# Altium integrated library TI Data Converters Analog to Digital Converter.IntLib: 2197 symbols (part 80 of 168)
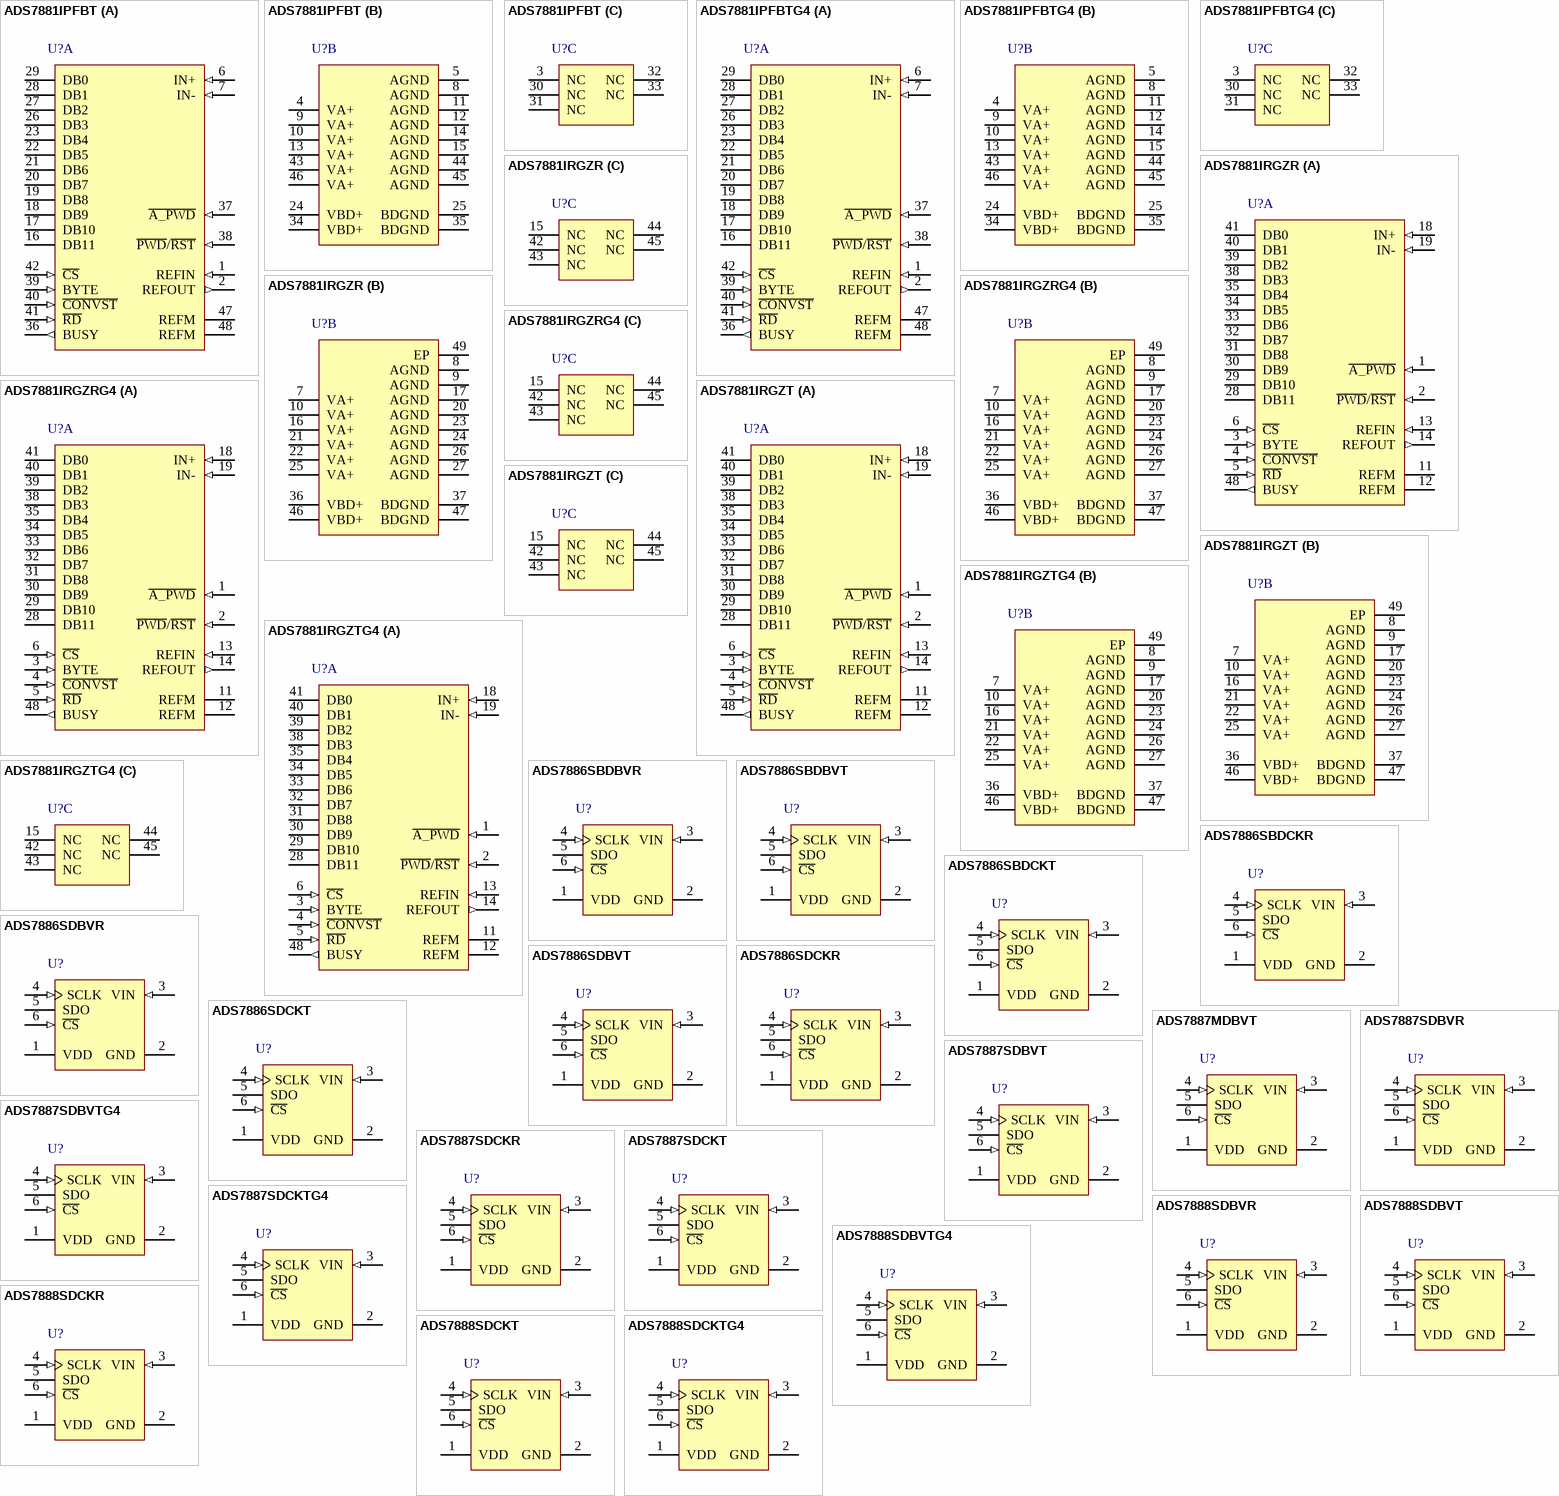
[diagram p205: symbols ADS7881IPFBT to ADS7888SDCKTG4]

## ADS7881IRGZTG4
designator U?
2.7 to 5.25 V Digital, 5 V Analog, 12-Bit, 4 MSPS, Parallel ADC with Reference, -40 to 85 degC, 48-pin QFN (RGZ48), Green (RoHS & no Sb/Br); Manufacturer: Texas Instruments; PartNumber: ADS7881IRGZTG4; # Input Channels: 1; Analog Voltage AV/DD(Max)(V): 5.25; Analog Voltage AV/DD(Min)(V): 4.75; Architecture: SAR; Digital Supply(Min)(V): 2.7; Interface: Parallel CMOS; Resolution(Bits): 12; Sample Rate (max)(SPS): 4M; SFDR(dB): 90; SINAD(dB): 71.5; SubFamily: Precision ADC (<=10MSPS); DatasheetVersion: SLAS400B; PackageVersion: 4204101/F, 06/2011; PackageReference: RGZ48-5150X5150TP; PackageDescription: 48-Pin Plastic Flat Pack, Body 7 x 7 mm, Pitch 0.5 mm; Supplier 1: Digi-Key; Supplier Part Number 1: ADS7834EB/2K5-ND; Supplier 2: Mouser; Supplier Part Number 2: 595-ADS7834EB/2K5; Digital Supply(Max)(V): 5.25; Eco-Plan: Green (RoHS & no Sb/Br); INL(Max)(+/-LSB): 1; SNR(dB): 71.5; Mounting Technology: Surface Mount; Code_JEDEC: MO-220; ComponentLink1Description: Manufacturer URL; ComponentLink1URL: http://www.ti.com/; ComponentLink2Description: Datasheet; ComponentLink2URL: http://www.ti.com/general/docs/lit/getliterature.tsp?genericPartNumber=ADS7881&fileType=pdf; ComponentLink3Description: Package Specification; ComponentLink3URL: http://www.ti.com/lit/ml/mpqf123e/mpqf123e.pdf
footprint TI-RGZ48-5150X5150TP_V (QFN, 48-Leads, Body 7x7mm, Pitch 0.5mm, Thermal Pad 5.15x5.15mm, TI Recommended)
part A pins: 1 ~{A_PWD} (in) "Nap mode enable, active low", 2 ~{PWD}/~{RST} (in) "Active low input, acts as device power down/device reset signal.", 3 BYTE (in) "Byte select input. Used for 8-bit bus reading.", 4 ~{CONVST} (in) "Conversion start. The rising edge starts the acquisition. The falling edge of this input ends the acquisition and starts the conversion. Refer to the timing diagrams for more details.", 5 ~{RD} (in) "Active low synchronization pulse for the parallel output. When C\S\ is low, this serves as the output enable and puts the previous conversion results on the bus.", 6 ~{CS} (in) "Chip select. Active low signal enables chip operation like acquisition start, conversion start, bus release from 3-state. Refer to the timing diagrams for more details.", 11 REFM (power) "Reference ground. Connect to analog ground plane.", 12 REFM (power) "Reference ground. Connect to analog ground plane.", 13 REFIN (in) "Reference (positive) input. Needs to be decoupled with REFM pin using 0.1-uF bypass capacitor and 1-uF storage capacitor.", 14 REFOUT (out) "Internal reference output. To be shorted to REFIN pin when internal reference is used. Do not connect to REFIN pin when external reference is used. Always needs to be decoupled with AGND using 0.1-uF bypass capacitor.", 18 IN+ (in) "Noninverting analog input channel", 19 IN- (in) "Inverting analog input channel", 28 DB11 (hiz), 29 DB10 (hiz), 30 DB9 (hiz), 31 DB8 (hiz), 32 DB7 (hiz), 33 DB6 (hiz), 34 DB5 (hiz), 35 DB4 (hiz), 38 DB3 (hiz), 39 DB2 (hiz), 40 DB1 (hiz), 41 DB0 (hiz), 48 BUSY (out) "Status output. High when a conversion is in progress."
part B pins: 7 VA+ (power) "Analog power supplies. Refer to Table 3 for layout guidelines.", 8 AGND (power) "Analog ground pins. Short to analog ground plane below the device.", 9 AGND (power) "Analog ground pins. Short to analog ground plane below the device.", 10 VA+ (power) "Analog power supplies. Refer to Table 3 for layout guidelines.", 16 VA+ (power) "Analog power supplies. Refer to Table 3 for layout guidelines.", 17 AGND (power) "Analog ground pins. Short to analog ground plane below the device.", 20 AGND (power) "Analog ground pins. Short to analog ground plane below the device.", 21 VA+ (power) "Analog power supplies. Refer to Table 3 for layout guidelines.", 22 VA+ (power) "Analog power supplies. Refer to Table 3 for layout guidelines.", 23 AGND (power) "Analog ground pins. Short to analog ground plane below the device.", 24 AGND (power) "Analog ground pins. Short to analog ground plane below the device.", 25 VA+ (power) "Analog power supplies. Refer to Table 3 for layout guidelines.", 26 AGND (power) "Analog ground pins. Short to analog ground plane below the device.", 27 AGND (power) "Analog ground pins. Short to analog ground plane below the device.", 36 VBD+ (power) "Digital power supply for all digital inputs and outputs. Refer to Table 3 for layout guidelines.", 37 BDGND (power) "Digital ground for all digital inputs and outputs. Short to analog ground plane below the device.", 46 VBD+ (power) "Digital power supply for all digital inputs and outputs. Refer to Table 3 for layout guidelines.", 47 BDGND (power) "Digital ground for all digital inputs and outputs. Short to analog ground plane below the device.", 49 EP
part C pins: 15 NC "No connection", 42 NC "No connection", 43 NC "No connection", 44 NC "No connection", 45 NC "No connection"

## ADS7886SBDBVR
designator U?
2.35 to 5.25 V, 12-Bit, 1 MSPS, Serial ADC, -40 to 125 degC, 6-pin SOT23 (DBV6), Green (RoHS & no Sb/Br); Manufacturer: Texas Instruments; PartNumber: ADS7886SBDBVR; # Input Channels: 1; Analog Voltage AV/DD(Max)(V): 5.25; Analog Voltage AV/DD(Min)(V): 2.35; Architecture: SAR; INL(Max)(+/-LSB): 1.25; Interface: Serial SPI; Resolution(Bits): 12; Sample Rate (max)(SPS): 1M; SFDR(dB): 85.5; SINAD(dB): 71.25; SubFamily: Precision ADC (<=10MSPS); DatasheetVersion: SLAS492A; PackageVersion: 4073253-5/K, 03/2006; PackageReference: DBV6; PackageDescription: 6-Pin Plastic Small Outline, Body 1.6 x 2.9 mm, Pitch 0.95 mm; Supplier 1: Digi-Key; Supplier Part Number 1: ADS7834EB/2K5G4-ND; Supplier 2: Mouser; Supplier Part Number 2: 595-ADS7834EB/2K5G4; Digital Supply(Max)(V): 5.25; Digital Supply(Min)(V): 2.35; Eco-Plan: Green (RoHS & no Sb/Br); SNR(dB): 71.25; Mounting Technology: Surface Mount; Code_JEDEC: MO-178; ComponentLink1Description: Manufacturer URL; ComponentLink1URL: http://www.ti.com/; ComponentLink2Description: Datasheet; ComponentLink2URL: http://www.ti.com/general/docs/lit/getliterature.tsp?genericPartNumber=ADS7886&fileType=pdf; ComponentLink3Description: Package Specification; ComponentLink3URL: http://www.ti.com/litv/pdf/mpds026h
footprint TI-DBV6_N (SOT23, 6-Leads, Body 2.9x1.6mm, Pitch 0.95mm, IPC Medium Density)
footprint TI-DBV6_L (SOT23, 6-Leads, Body 2.9x1.6mm, Pitch 0.95mm, IPC High Density)
footprint TI-DBV6_M (SOT23, 6-Leads, Body 2.9x1.6mm, Pitch 0.95mm, IPC Low Density)
pins: 1 VDD (power) "Power supply input also acts like a reference voltage to ADC.", 2 GND (power) "Ground for power supply, all analog and digital signals are referred with respect to this pin.", 3 VIN (in) "Analog signal input", 4 SCLK (in) "Serial clock", 5 SDO (hiz) "Serial data out", 6 ~{CS} (in) "Chip select signal, active low"

## ADS7886SBDBVT
designator U?
2.35 to 5.25 V, 12-Bit, 1 MSPS, Serial ADC, -40 to 125 degC, 6-pin SOT23 (DBV6), Green (RoHS & no Sb/Br); Manufacturer: Texas Instruments; PartNumber: ADS7886SBDBVT; # Input Channels: 1; Analog Voltage AV/DD(Max)(V): 5.25; Analog Voltage AV/DD(Min)(V): 2.35; Architecture: SAR; INL(Max)(+/-LSB): 1.25; Interface: Serial SPI; Resolution(Bits): 12; Sample Rate (max)(SPS): 1M; SFDR(dB): 85.5; SINAD(dB): 71.25; SubFamily: Precision ADC (<=10MSPS); DatasheetVersion: SLAS492A; PackageVersion: 4073253-5/K, 03/2006; PackageReference: DBV6; PackageDescription: 6-Pin Plastic Small Outline, Body 1.6 x 2.9 mm, Pitch 0.95 mm; Supplier 1: Digi-Key; Supplier Part Number 1: 296-2196-5-ND; Supplier 2: Newark; Supplier Part Number 2: 76C7805; Supplier 3: Mouser; Supplier Part Number 3: 595-TLV1570CDW; Digital Supply(Max)(V): 5.25; Digital Supply(Min)(V): 2.35; Eco-Plan: Green (RoHS & no Sb/Br); SNR(dB): 71.25; Mounting Technology: Surface Mount; Code_JEDEC: MO-178; ComponentLink1Description: Manufacturer URL; ComponentLink1URL: http://www.ti.com/; ComponentLink2Description: Datasheet; ComponentLink2URL: http://www.ti.com/general/docs/lit/getliterature.tsp?genericPartNumber=ADS7886&fileType=pdf; ComponentLink3Description: Package Specification; ComponentLink3URL: http://www.ti.com/litv/pdf/mpds026h
footprint TI-DBV6_N (SOT23, 6-Leads, Body 2.9x1.6mm, Pitch 0.95mm, IPC Medium Density)
footprint TI-DBV6_L (SOT23, 6-Leads, Body 2.9x1.6mm, Pitch 0.95mm, IPC High Density)
footprint TI-DBV6_M (SOT23, 6-Leads, Body 2.9x1.6mm, Pitch 0.95mm, IPC Low Density)
pins: 1 VDD (power) "Power supply input also acts like a reference voltage to ADC.", 2 GND (power) "Ground for power supply, all analog and digital signals are referred with respect to this pin.", 3 VIN (in) "Analog signal input", 4 SCLK (in) "Serial clock", 5 SDO (hiz) "Serial data out", 6 ~{CS} (in) "Chip select signal, active low"

## ADS7886SBDCKR
designator U?
2.35 to 5.25 V, 12-Bit, 1 MSPS, Serial ADC, -40 to 125 degC, 6-pin SOT23 (DCK6), Green (RoHS & no Sb/Br); Manufacturer: Texas Instruments; PartNumber: ADS7886SBDCKR; # Input Channels: 1; Analog Voltage AV/DD(Max)(V): 5.25; Analog Voltage AV/DD(Min)(V): 2.35; Architecture: SAR; INL(Max)(+/-LSB): 1.25; Interface: Serial SPI; Resolution(Bits): 12; Sample Rate (max)(SPS): 1M; SFDR(dB): 85.5; SINAD(dB): 71.25; SubFamily: Precision ADC (<=10MSPS); DatasheetVersion: SLAS492A; PackageVersion: 4093553-4/G, 01/2007; PackageReference: DCK6; PackageDescription: 6-Pin Plastic Small Outline, Body 2 x 1.25 mm, Pitch 0.65 mm; Supplier 1: Digi-Key; Supplier Part Number 1: TLV1570CDWG4-ND; Supplier 2: Mouser; Supplier Part Number 2: 595-TLV1570CDWG4; Digital Supply(Max)(V): 5.25; Digital Supply(Min)(V): 2.35; Eco-Plan: Green (RoHS & no Sb/Br); SNR(dB): 71.25; Mounting Technology: Surface Mount; Code_JEDEC: MO-203; ComponentLink1Description: Manufacturer URL; ComponentLink1URL: http://www.ti.com/; ComponentLink2Description: Datasheet; ComponentLink2URL: http://www.ti.com/general/docs/lit/getliterature.tsp?genericPartNumber=ADS7886&fileType=pdf; ComponentLink3Description: Package Specification; ComponentLink3URL: http://www.ti.com/litv/pdf/mpds114c
footprint TI-DCK6_V (SOT23, 6-Leads, Body 2x1.25mm, Pitch 0.65mm)
pins: 1 VDD (power) "Power supply input also acts like a reference voltage to ADC.", 2 GND (power) "Ground for power supply, all analog and digital signals are referred with respect to this pin.", 3 VIN (in) "Analog signal input", 4 SCLK (in) "Serial clock", 5 SDO (hiz) "Serial data out", 6 ~{CS} (in) "Chip select signal, active low"

## ADS7886SBDCKT
designator U?
2.35 to 5.25 V, 12-Bit, 1 MSPS, Serial ADC, -40 to 125 degC, 6-pin SOT23 (DCK6), Green (RoHS & no Sb/Br); Manufacturer: Texas Instruments; PartNumber: ADS7886SBDCKT; # Input Channels: 1; Analog Voltage AV/DD(Max)(V): 5.25; Analog Voltage AV/DD(Min)(V): 2.35; Architecture: SAR; INL(Max)(+/-LSB): 1.25; Interface: Serial SPI; Resolution(Bits): 12; Sample Rate (max)(SPS): 1M; SFDR(dB): 85.5; SINAD(dB): 71.25; SubFamily: Precision ADC (<=10MSPS); DatasheetVersion: SLAS492A; PackageVersion: 4093553-4/G, 01/2007; PackageReference: DCK6; PackageDescription: 6-Pin Plastic Small Outline, Body 2 x 1.25 mm, Pitch 0.65 mm; Supplier 1: Digi-Key; Supplier Part Number 1: TLV1570CDWR-ND; Supplier 2: Mouser; Supplier Part Number 2: 595-TLV1570CDWR; Digital Supply(Max)(V): 5.25; Digital Supply(Min)(V): 2.35; Eco-Plan: Green (RoHS & no Sb/Br); SNR(dB): 71.25; Mounting Technology: Surface Mount; Code_JEDEC: MO-203; ComponentLink1Description: Manufacturer URL; ComponentLink1URL: http://www.ti.com/; ComponentLink2Description: Datasheet; ComponentLink2URL: http://www.ti.com/general/docs/lit/getliterature.tsp?genericPartNumber=ADS7886&fileType=pdf; ComponentLink3Description: Package Specification; ComponentLink3URL: http://www.ti.com/litv/pdf/mpds114c
footprint TI-DCK6_V (SOT23, 6-Leads, Body 2x1.25mm, Pitch 0.65mm)
pins: 1 VDD (power) "Power supply input also acts like a reference voltage to ADC.", 2 GND (power) "Ground for power supply, all analog and digital signals are referred with respect to this pin.", 3 VIN (in) "Analog signal input", 4 SCLK (in) "Serial clock", 5 SDO (hiz) "Serial data out", 6 ~{CS} (in) "Chip select signal, active low"

## ADS7886SDBVR
designator U?
2.35 to 5.25 V, 12-Bit, 1 MSPS, Serial ADC, -40 to 125 degC, 6-pin SOT23 (DBV6), Green (RoHS & no Sb/Br); Manufacturer: Texas Instruments; PartNumber: ADS7886SDBVR; # Input Channels: 1; Analog Voltage AV/DD(Max)(V): 5.25; Analog Voltage AV/DD(Min)(V): 2.35; Architecture: SAR; INL(Max)(+/-LSB): 2; Interface: Serial SPI; Resolution(Bits): 12; Sample Rate (max)(SPS): 1M; SFDR(dB): 85.5; SINAD(dB): 71.25; SubFamily: Precision ADC (<=10MSPS); DatasheetVersion: SLAS492A; PackageVersion: 4073253-5/K, 03/2006; PackageReference: DBV6; PackageDescription: 6-Pin Plastic Small Outline, Body 1.6 x 2.9 mm, Pitch 0.95 mm; Supplier 1: Digi-Key; Supplier Part Number 1: TLV1570CDWRG4-ND; Supplier 2: Mouser; Supplier Part Number 2: 595-TLV1570CDWRG4; Digital Supply(Max)(V): 5.25; Digital Supply(Min)(V): 2.35; Eco-Plan: Green (RoHS & no Sb/Br); SNR(dB): 71.25; Mounting Technology: Surface Mount; Code_JEDEC: MO-178; ComponentLink1Description: Manufacturer URL; ComponentLink1URL: http://www.ti.com/; ComponentLink2Description: Datasheet; ComponentLink2URL: http://www.ti.com/general/docs/lit/getliterature.tsp?genericPartNumber=ADS7886&fileType=pdf; ComponentLink3Description: Package Specification; ComponentLink3URL: http://www.ti.com/litv/pdf/mpds026h
footprint TI-DBV6_N (SOT23, 6-Leads, Body 2.9x1.6mm, Pitch 0.95mm, IPC Medium Density)
footprint TI-DBV6_L (SOT23, 6-Leads, Body 2.9x1.6mm, Pitch 0.95mm, IPC High Density)
footprint TI-DBV6_M (SOT23, 6-Leads, Body 2.9x1.6mm, Pitch 0.95mm, IPC Low Density)
pins: 1 VDD (power) "Power supply input also acts like a reference voltage to ADC.", 2 GND (power) "Ground for power supply, all analog and digital signals are referred with respect to this pin.", 3 VIN (in) "Analog signal input", 4 SCLK (in) "Serial clock", 5 SDO (hiz) "Serial data out", 6 ~{CS} (in) "Chip select signal, active low"

## ADS7886SDBVT
designator U?
2.35 to 5.25 V, 12-Bit, 1 MSPS, Serial ADC, -40 to 125 degC, 6-pin SOT23 (DBV6), Green (RoHS & no Sb/Br); Manufacturer: Texas Instruments; PartNumber: ADS7886SDBVT; # Input Channels: 1; Analog Voltage AV/DD(Max)(V): 5.25; Analog Voltage AV/DD(Min)(V): 2.35; Architecture: SAR; INL(Max)(+/-LSB): 2; Interface: Serial SPI; Resolution(Bits): 12; Sample Rate (max)(SPS): 1M; SFDR(dB): 85.5; SINAD(dB): 71.25; SubFamily: Precision ADC (<=10MSPS); DatasheetVersion: SLAS492A; PackageVersion: 4073253-5/K, 03/2006; PackageReference: DBV6; PackageDescription: 6-Pin Plastic Small Outline, Body 1.6 x 2.9 mm, Pitch 0.95 mm; Supplier 1: Digi-Key; Supplier Part Number 1: 296-2967-5-ND; Supplier 2: Newark; Supplier Part Number 2: 25C3233; Supplier 3: Mouser; Supplier Part Number 3: 595-TLV1570CPW; Digital Supply(Max)(V): 5.25; Digital Supply(Min)(V): 2.35; Eco-Plan: Green (RoHS & no Sb/Br); SNR(dB): 71.25; Mounting Technology: Surface Mount; Code_JEDEC: MO-178; ComponentLink1Description: Manufacturer URL; ComponentLink1URL: http://www.ti.com/; ComponentLink2Description: Datasheet; ComponentLink2URL: http://www.ti.com/general/docs/lit/getliterature.tsp?genericPartNumber=ADS7886&fileType=pdf; ComponentLink3Description: Package Specification; ComponentLink3URL: http://www.ti.com/litv/pdf/mpds026h
footprint TI-DBV6_N (SOT23, 6-Leads, Body 2.9x1.6mm, Pitch 0.95mm, IPC Medium Density)
footprint TI-DBV6_L (SOT23, 6-Leads, Body 2.9x1.6mm, Pitch 0.95mm, IPC High Density)
footprint TI-DBV6_M (SOT23, 6-Leads, Body 2.9x1.6mm, Pitch 0.95mm, IPC Low Density)
pins: 1 VDD (power) "Power supply input also acts like a reference voltage to ADC.", 2 GND (power) "Ground for power supply, all analog and digital signals are referred with respect to this pin.", 3 VIN (in) "Analog signal input", 4 SCLK (in) "Serial clock", 5 SDO (hiz) "Serial data out", 6 ~{CS} (in) "Chip select signal, active low"

## ADS7886SDCKR
designator U?
2.35 to 5.25 V, 12-Bit, 1 MSPS, Serial ADC, -40 to 125 degC, 6-pin SOT23 (DCK6), Green (RoHS & no Sb/Br); Manufacturer: Texas Instruments; PartNumber: ADS7886SDCKR; # Input Channels: 1; Analog Voltage AV/DD(Max)(V): 5.25; Analog Voltage AV/DD(Min)(V): 2.35; Architecture: SAR; INL(Max)(+/-LSB): 2; Interface: Serial SPI; Resolution(Bits): 12; Sample Rate (max)(SPS): 1M; SFDR(dB): 85.5; SINAD(dB): 71.25; SubFamily: Precision ADC (<=10MSPS); DatasheetVersion: SLAS492A; PackageVersion: 4093553-4/G, 01/2007; PackageReference: DCK6; PackageDescription: 6-Pin Plastic Small Outline, Body 2 x 1.25 mm, Pitch 0.65 mm; Supplier 1: Digi-Key; Supplier Part Number 1: TLV1570CPWG4-ND; Supplier 2: Mouser; Supplier Part Number 2: 595-TLV1570CPWG4; Digital Supply(Max)(V): 5.25; Digital Supply(Min)(V): 2.35; Eco-Plan: Green (RoHS & no Sb/Br); SNR(dB): 71.25; Mounting Technology: Surface Mount; Code_JEDEC: MO-203; ComponentLink1Description: Manufacturer URL; ComponentLink1URL: http://www.ti.com/; ComponentLink2Description: Datasheet; ComponentLink2URL: http://www.ti.com/general/docs/lit/getliterature.tsp?genericPartNumber=ADS7886&fileType=pdf; ComponentLink3Description: Package Specification; ComponentLink3URL: http://www.ti.com/litv/pdf/mpds114c
footprint TI-DCK6_V (SOT23, 6-Leads, Body 2x1.25mm, Pitch 0.65mm)
pins: 1 VDD (power) "Power supply input also acts like a reference voltage to ADC.", 2 GND (power) "Ground for power supply, all analog and digital signals are referred with respect to this pin.", 3 VIN (in) "Analog signal input", 4 SCLK (in) "Serial clock", 5 SDO (hiz) "Serial data out", 6 ~{CS} (in) "Chip select signal, active low"

## ADS7886SDCKT
designator U?
2.35 to 5.25 V, 12-Bit, 1 MSPS, Serial ADC, -40 to 125 degC, 6-pin SOT23 (DCK6), Green (RoHS & no Sb/Br); Manufacturer: Texas Instruments; PartNumber: ADS7886SDCKT; # Input Channels: 1; Analog Voltage AV/DD(Max)(V): 5.25; Analog Voltage AV/DD(Min)(V): 2.35; Architecture: SAR; INL(Max)(+/-LSB): 2; Interface: Serial SPI; Resolution(Bits): 12; Sample Rate (max)(SPS): 1M; SFDR(dB): 85.5; SINAD(dB): 71.25; SubFamily: Precision ADC (<=10MSPS); DatasheetVersion: SLAS492A; PackageVersion: 4093553-4/G, 01/2007; PackageReference: DCK6; PackageDescription: 6-Pin Plastic Small Outline, Body 2 x 1.25 mm, Pitch 0.65 mm; Supplier 1: Digi-Key; Supplier Part Number 1: TLV1570CPWR-ND; Supplier 2: Newark; Supplier Part Number 2: 76C7807; Supplier 3: Mouser; Supplier Part Number 3: 595-TLV1570CPWR; Digital Supply(Max)(V): 5.25; Digital Supply(Min)(V): 2.35; Eco-Plan: Green (RoHS & no Sb/Br); SNR(dB): 71.25; Mounting Technology: Surface Mount; Code_JEDEC: MO-203; ComponentLink1Description: Manufacturer URL; ComponentLink1URL: http://www.ti.com/; ComponentLink2Description: Datasheet; ComponentLink2URL: http://www.ti.com/general/docs/lit/getliterature.tsp?genericPartNumber=ADS7886&fileType=pdf; ComponentLink3Description: Package Specification; ComponentLink3URL: http://www.ti.com/litv/pdf/mpds114c
footprint TI-DCK6_V (SOT23, 6-Leads, Body 2x1.25mm, Pitch 0.65mm)
pins: 1 VDD (power) "Power supply input also acts like a reference voltage to ADC.", 2 GND (power) "Ground for power supply, all analog and digital signals are referred with respect to this pin.", 3 VIN (in) "Analog signal input", 4 SCLK (in) "Serial clock", 5 SDO (hiz) "Serial data out", 6 ~{CS} (in) "Chip select signal, active low"

## ADS7887MDBVT
designator U?
2.35 to 5.25 V, 10-Bit, 1.25 MSPS, Serial ADC, -55 to 125 degC, 6-pin SOT23 (DBV6), Pb-Free (RoHS Exempt); Manufacturer: Texas Instruments; PartNumber: ADS7887MDBVT; Analog Voltage AV/DD(Max)(V): 5.25; Analog Voltage AV/DD(Min)(V): 2.35; Architecture: SAR; INL(Max)(+/-LSB): 1.2; Interface: Serial SPI; Resolution(Bits): 10; Sample Rate (max)(SPS): 1.25M; SFDR(dB): 81; SINAD(dB): 61; SubFamily: Precision ADC (<=10MSPS); DatasheetVersion: SLAS750A; PackageVersion: 4073253-5/K, 03/2006; PackageReference: DBV6; PackageDescription: 6-Pin Plastic Small Outline, Body 1.6 x 2.9 mm, Pitch 0.95 mm; Supplier 1: Digi-Key; Supplier Part Number 1: TLV1570CPWRG4-ND; Supplier 2: Newark; Supplier Part Number 2: 08K4874; Supplier 3: Mouser; Supplier Part Number 3: 595-TLV1570CPWRG4; Digital Supply(Max)(V): 5.25; Digital Supply(Min)(V): 2.35; Eco-Plan: Pb-Free (RoHS Exempt); SNR(dB): 61; Mounting Technology: Surface Mount; Code_JEDEC: MO-178; ComponentLink1Description: Manufacturer URL; ComponentLink1URL: http://www.ti.com/; ComponentLink2Description: Datasheet; ComponentLink2URL: http://www.ti.com/general/docs/lit/getliterature.tsp?genericPartNumber=ADS7887M&fileType=pdf; ComponentLink3Description: Package Specification; ComponentLink3URL: http://www.ti.com/litv/pdf/mpds026h
footprint TI-DBV6_N (SOT23, 6-Leads, Body 2.9x1.6mm, Pitch 0.95mm, IPC Medium Density)
footprint TI-DBV6_L (SOT23, 6-Leads, Body 2.9x1.6mm, Pitch 0.95mm, IPC High Density)
footprint TI-DBV6_M (SOT23, 6-Leads, Body 2.9x1.6mm, Pitch 0.95mm, IPC Low Density)
pins: 1 VDD (power) "Power supply input also acts like a reference voltage to ADC.", 2 GND (power) "Ground for power supply, all analog and digital signals are referred with respect to this pin.", 3 VIN (in) "Analog signal input", 4 SCLK (in) "Serial clock", 5 SDO (hiz) "Serial data out", 6 ~{CS} (in) "Chip select signal, active low"

## ADS7887SDBVR
designator U?
2.35 to 5.25 V, 10-Bit, 1.25 MSPS, Serial ADC, -40 to 125 degC, 6-pin SOT23 (DBV6), Pb-Free (RoHS Exempt); Manufacturer: Texas Instruments; PartNumber: ADS7887SDBVR; # Input Channels: 1; Analog Voltage AV/DD(Max)(V): 5.25; Analog Voltage AV/DD(Min)(V): 2.35; Architecture: SAR; INL(Max)(+/-LSB): 0.75; Interface: Serial SPI; Resolution(Bits): 10; Sample Rate (max)(SPS): 1.25M; SFDR(dB): 81; SINAD(dB): 61; SubFamily: Precision ADC (<=10MSPS); DatasheetVersion: SLAS468; PackageVersion: 4073253-5/K, 03/2006; PackageReference: DBV6; PackageDescription: 6-Pin Plastic Small Outline, Body 1.6 x 2.9 mm, Pitch 0.95 mm; Supplier 1: Digi-Key; Supplier Part Number 1: 296-1881-5-ND; Supplier 2: Mouser; Supplier Part Number 2: 595-TLV1570IDW; Digital Supply(Max)(V): 5.25; Digital Supply(Min)(V): 2.35; Eco-Plan: Pb-Free (RoHS Exempt); SNR(dB): 61; Mounting Technology: Surface Mount; Code_JEDEC: MO-178; ComponentLink1Description: Manufacturer URL; ComponentLink1URL: http://www.ti.com/; ComponentLink2Description: Datasheet; ComponentLink2URL: http://www.ti.com/general/docs/lit/getliterature.tsp?genericPartNumber=ADS7887&fileType=pdf; ComponentLink3Description: Package Specification; ComponentLink3URL: http://www.ti.com/litv/pdf/mpds026h
footprint TI-DBV6_N (SOT23, 6-Leads, Body 2.9x1.6mm, Pitch 0.95mm, IPC Medium Density)
footprint TI-DBV6_L (SOT23, 6-Leads, Body 2.9x1.6mm, Pitch 0.95mm, IPC High Density)
footprint TI-DBV6_M (SOT23, 6-Leads, Body 2.9x1.6mm, Pitch 0.95mm, IPC Low Density)
pins: 1 VDD (power) "Power supply input also acts like a reference voltage to ADC.", 2 GND (power) "Ground for power supply, all analog and digital signals are referred with respect to this pin.", 3 VIN (in) "Analog signal input", 4 SCLK (in) "Serial clock", 5 SDO (hiz) "Serial data out", 6 ~{CS} (in) "Chip select signal, active low"

## ADS7887SDBVT
designator U?
2.35 to 5.25 V, 10-Bit, 1.25 MSPS, Serial ADC, -40 to 125 degC, 6-pin SOT23 (DBV6), Pb-Free (RoHS Exempt); Manufacturer: Texas Instruments; PartNumber: ADS7887SDBVT; # Input Channels: 1; Analog Voltage AV/DD(Max)(V): 5.25; Analog Voltage AV/DD(Min)(V): 2.35; Architecture: SAR; INL(Max)(+/-LSB): 0.75; Interface: Serial SPI; Resolution(Bits): 10; Sample Rate (max)(SPS): 1.25M; SFDR(dB): 81; SINAD(dB): 61; SubFamily: Precision ADC (<=10MSPS); DatasheetVersion: SLAS468; PackageVersion: 4073253-5/K, 03/2006; PackageReference: DBV6; PackageDescription: 6-Pin Plastic Small Outline, Body 1.6 x 2.9 mm, Pitch 0.95 mm; Supplier 1: Digi-Key; Supplier Part Number 1: TLV1570IDWG4-ND; Supplier 2: Newark; Supplier Part Number 2: 37K4231; Supplier 3: Mouser; Supplier Part Number 3: 595-TLV1570IDWG4; Digital Supply(Max)(V): 5.25; Digital Supply(Min)(V): 2.35; Eco-Plan: Pb-Free (RoHS Exempt); SNR(dB): 61; Mounting Technology: Surface Mount; Code_JEDEC: MO-178; ComponentLink1Description: Manufacturer URL; ComponentLink1URL: http://www.ti.com/; ComponentLink2Description: Datasheet; ComponentLink2URL: http://www.ti.com/general/docs/lit/getliterature.tsp?genericPartNumber=ADS7887&fileType=pdf; ComponentLink3Description: Package Specification; ComponentLink3URL: http://www.ti.com/litv/pdf/mpds026h
footprint TI-DBV6_N (SOT23, 6-Leads, Body 2.9x1.6mm, Pitch 0.95mm, IPC Medium Density)
footprint TI-DBV6_L (SOT23, 6-Leads, Body 2.9x1.6mm, Pitch 0.95mm, IPC High Density)
footprint TI-DBV6_M (SOT23, 6-Leads, Body 2.9x1.6mm, Pitch 0.95mm, IPC Low Density)
pins: 1 VDD (power) "Power supply input also acts like a reference voltage to ADC.", 2 GND (power) "Ground for power supply, all analog and digital signals are referred with respect to this pin.", 3 VIN (in) "Analog signal input", 4 SCLK (in) "Serial clock", 5 SDO (hiz) "Serial data out", 6 ~{CS} (in) "Chip select signal, active low"

## ADS7887SDBVTG4
designator U?
2.35 to 5.25 V, 10-Bit, 1.25 MSPS, Serial ADC, -40 to 125 degC, 6-pin SOT23 (DBV6); Manufacturer: Texas Instruments; PartNumber: ADS7887SDBVTG4; # Input Channels: 1; Analog Voltage AV/DD(Max)(V): 5.25; Analog Voltage AV/DD(Min)(V): 2.35; Architecture: SAR; INL(Max)(+/-LSB): 0.75; Interface: Serial SPI; Resolution(Bits): 10; Sample Rate (max)(SPS): 1.25M; SFDR(dB): 81; SINAD(dB): 61; SubFamily: Precision ADC (<=10MSPS); DatasheetVersion: SLAS468; PackageVersion: 4073253-5/K, 03/2006; PackageReference: DBV6; PackageDescription: 6-Pin Plastic Small Outline, Body 1.6 x 2.9 mm, Pitch 0.95 mm; Supplier 1: Digi-Key; Supplier Part Number 1: 296-1882-5-ND; Supplier 2: Mouser; Supplier Part Number 2: 595-TLV1570IPW; Digital Supply(Max)(V): 5.25; Digital Supply(Min)(V): 2.35; SNR(dB): 61; Mounting Technology: Surface Mount; Code_JEDEC: MO-178; ComponentLink1Description: Manufacturer URL; ComponentLink1URL: http://www.ti.com/; ComponentLink2Description: Datasheet; ComponentLink2URL: http://www.ti.com/general/docs/lit/getliterature.tsp?genericPartNumber=ADS7887&fileType=pdf; ComponentLink3Description: Package Specification; ComponentLink3URL: http://www.ti.com/litv/pdf/mpds026h
footprint TI-DBV6_N (SOT23, 6-Leads, Body 2.9x1.6mm, Pitch 0.95mm, IPC Medium Density)
footprint TI-DBV6_L (SOT23, 6-Leads, Body 2.9x1.6mm, Pitch 0.95mm, IPC High Density)
footprint TI-DBV6_M (SOT23, 6-Leads, Body 2.9x1.6mm, Pitch 0.95mm, IPC Low Density)
pins: 1 VDD (power) "Power supply input also acts like a reference voltage to ADC.", 2 GND (power) "Ground for power supply, all analog and digital signals are referred with respect to this pin.", 3 VIN (in) "Analog signal input", 4 SCLK (in) "Serial clock", 5 SDO (hiz) "Serial data out", 6 ~{CS} (in) "Chip select signal, active low"

## ADS7887SDCKR
designator U?
10-Bit, 1.25 MSPS, Serial ADC, -40 to 125 degC, 6-pin SOT23 (DCK6), Pb-Free (RoHS Exempt); Manufacturer: Texas Instruments; PartNumber: ADS7887SDCKR; # Input Channels: 1; Analog Voltage AV/DD(Max)(V): 5.25; Analog Voltage AV/DD(Min)(V): 2.35; Architecture: SAR; INL(Max)(+/-LSB): 0.75; Interface: Serial SPI; Resolution(Bits): 10; Sample Rate (max)(SPS): 1.25M; SFDR(dB): 81; SINAD(dB): 61; SubFamily: Precision ADC (<=10MSPS); DatasheetVersion: SLAS468; PackageVersion: 4093553-4/G, 01/2007; PackageReference: DCK6; PackageDescription: 6-Pin Plastic Small Outline, Body 2 x 1.25 mm, Pitch 0.65 mm; Supplier 1: Digi-Key; Supplier Part Number 1: TLV1570IPWG4-ND; Supplier 2: Newark; Supplier Part Number 2: 73K9553; Supplier 3: Mouser; Supplier Part Number 3: 595-TLV1570IPWG4; Digital Supply(Max)(V): 5.25; Digital Supply(Min)(V): 2.35; Eco-Plan: Pb-Free (RoHS Exempt); SNR(dB): 61; Mounting Technology: Surface Mount; Code_JEDEC: MO-203; ComponentLink1Description: Manufacturer URL; ComponentLink1URL: http://www.ti.com/; ComponentLink2Description: Datasheet; ComponentLink2URL: http://www.ti.com/general/docs/lit/getliterature.tsp?genericPartNumber=ADS7887&fileType=pdf; ComponentLink3Description: Package Specification; ComponentLink3URL: http://www.ti.com/litv/pdf/mpds114c
footprint TI-DCK6_V (SOT23, 6-Leads, Body 2x1.25mm, Pitch 0.65mm)
pins: 1 VDD (power) "Power supply input also acts like a reference voltage to ADC.", 2 GND (power) "Ground for power supply, all analog and digital signals are referred with respect to this pin.", 3 VIN (in) "Analog signal input", 4 SCLK (in) "Serial clock", 5 SDO (hiz) "Serial data out", 6 ~{CS} (in) "Chip select signal, active low"

## ADS7887SDCKT
designator U?
10-Bit, 1.25 MSPS, Serial ADC, -40 to 125 degC, 6-pin SOT23 (DCK6), Pb-Free (RoHS Exempt); Manufacturer: Texas Instruments; PartNumber: ADS7887SDCKT; # Input Channels: 1; Analog Voltage AV/DD(Max)(V): 5.25; Analog Voltage AV/DD(Min)(V): 2.35; Architecture: SAR; INL(Max)(+/-LSB): 0.75; Interface: Serial SPI; Resolution(Bits): 10; Sample Rate (max)(SPS): 1.25M; SFDR(dB): 81; SINAD(dB): 61; SubFamily: Precision ADC (<=10MSPS); DatasheetVersion: SLAS468; PackageVersion: 4093553-4/G, 01/2007; PackageReference: DCK6; PackageDescription: 6-Pin Plastic Small Outline, Body 2 x 1.25 mm, Pitch 0.65 mm; Supplier 1: Digi-Key; Supplier Part Number 1: TLV1570IPWR-ND; Supplier 2: Newark; Supplier Part Number 2: 76C7810; Supplier 3: Mouser; Supplier Part Number 3: 595-TLV1570IPWR; Digital Supply(Max)(V): 5.25; Digital Supply(Min)(V): 2.35; Eco-Plan: Pb-Free (RoHS Exempt); SNR(dB): 61; Mounting Technology: Surface Mount; Code_JEDEC: MO-203; ComponentLink1Description: Manufacturer URL; ComponentLink1URL: http://www.ti.com/; ComponentLink2Description: Datasheet; ComponentLink2URL: http://www.ti.com/general/docs/lit/getliterature.tsp?genericPartNumber=ADS7887&fileType=pdf; ComponentLink3Description: Package Specification; ComponentLink3URL: http://www.ti.com/litv/pdf/mpds114c
footprint TI-DCK6_V (SOT23, 6-Leads, Body 2x1.25mm, Pitch 0.65mm)
pins: 1 VDD (power) "Power supply input also acts like a reference voltage to ADC.", 2 GND (power) "Ground for power supply, all analog and digital signals are referred with respect to this pin.", 3 VIN (in) "Analog signal input", 4 SCLK (in) "Serial clock", 5 SDO (hiz) "Serial data out", 6 ~{CS} (in) "Chip select signal, active low"

## ADS7887SDCKTG4
designator U?
10-Bit, 1.25 MSPS, Serial ADC, -40 to 125 degC, 6-pin SOT23 (DCK6); Manufacturer: Texas Instruments; PartNumber: ADS7887SDCKTG4; # Input Channels: 1; Analog Voltage AV/DD(Max)(V): 5.25; Analog Voltage AV/DD(Min)(V): 2.35; Architecture: SAR; INL(Max)(+/-LSB): 0.75; Interface: Serial SPI; Resolution(Bits): 10; Sample Rate (max)(SPS): 1.25M; SFDR(dB): 81; SINAD(dB): 61; SubFamily: Precision ADC (<=10MSPS); DatasheetVersion: SLAS468; PackageVersion: 4093553-4/G, 01/2007; PackageReference: DCK6; PackageDescription: 6-Pin Plastic Small Outline, Body 2 x 1.25 mm, Pitch 0.65 mm; Supplier 1: Digi-Key; Supplier Part Number 1: TLV1570IPWRG4-ND; Supplier 2: Mouser; Supplier Part Number 2: 595-TLV1570IPWRG4; Digital Supply(Max)(V): 5.25; Digital Supply(Min)(V): 2.35; SNR(dB): 61; Mounting Technology: Surface Mount; Code_JEDEC: MO-203; ComponentLink1Description: Manufacturer URL; ComponentLink1URL: http://www.ti.com/; ComponentLink2Description: Datasheet; ComponentLink2URL: http://www.ti.com/general/docs/lit/getliterature.tsp?genericPartNumber=ADS7887&fileType=pdf; ComponentLink3Description: Package Specification; ComponentLink3URL: http://www.ti.com/litv/pdf/mpds114c
footprint TI-DCK6_V (SOT23, 6-Leads, Body 2x1.25mm, Pitch 0.65mm)
pins: 1 VDD (power) "Power supply input also acts like a reference voltage to ADC.", 2 GND (power) "Ground for power supply, all analog and digital signals are referred with respect to this pin.", 3 VIN (in) "Analog signal input", 4 SCLK (in) "Serial clock", 5 SDO (hiz) "Serial data out", 6 ~{CS} (in) "Chip select signal, active low"

## ADS7888SDBVR
designator U?
2.35 to 5.25 V, 8-Bit, 1.25 MSPS, Serial ADC, -40 to 125 degC, 6-pin SOT23 (DBV6), Pb-Free (RoHS Exempt); Manufacturer: Texas Instruments; PartNumber: ADS7888SDBVR; # Input Channels: 1; Analog Voltage AV/DD(Max)(V): 5.25; Analog Voltage AV/DD(Min)(V): 2.35; Architecture: SAR; INL(Max)(+/-LSB): 0.3; Interface: Serial SPI; Resolution(Bits): 8; Sample Rate (max)(SPS): 1.25M; SFDR(dB): 77; SINAD(dB): 49.5; SubFamily: Precision ADC (<=10MSPS); DatasheetVersion: SLAS468; PackageVersion: 4073253-5/K, 03/2006; PackageReference: DBV6; PackageDescription: 6-Pin Plastic Small Outline, Body 1.6 x 2.9 mm, Pitch 0.95 mm; Supplier 1: Digi-Key; Supplier Part Number 1: 296-2966-5-ND; Supplier 2: Mouser; Supplier Part Number 2: 595-TLV1562CPW; Digital Supply(Max)(V): 5.25; Digital Supply(Min)(V): 2.35; Eco-Plan: Pb-Free (RoHS Exempt); Mounting Technology: Surface Mount; Code_JEDEC: MO-178; ComponentLink1Description: Manufacturer URL; ComponentLink1URL: http://www.ti.com/; ComponentLink2Description: Datasheet; ComponentLink2URL: http://www.ti.com/general/docs/lit/getliterature.tsp?genericPartNumber=ADS7888&fileType=pdf; ComponentLink3Description: Package Specification; ComponentLink3URL: http://www.ti.com/litv/pdf/mpds026h
footprint TI-DBV6_N (SOT23, 6-Leads, Body 2.9x1.6mm, Pitch 0.95mm, IPC Medium Density)
footprint TI-DBV6_L (SOT23, 6-Leads, Body 2.9x1.6mm, Pitch 0.95mm, IPC High Density)
footprint TI-DBV6_M (SOT23, 6-Leads, Body 2.9x1.6mm, Pitch 0.95mm, IPC Low Density)
pins: 1 VDD (power) "Power supply input also acts like a reference voltage to ADC.", 2 GND (power) "Ground for power supply, all analog and digital signals are referred with respect to this pin.", 3 VIN (in) "Analog signal input", 4 SCLK (in) "Serial clock", 5 SDO (hiz) "Serial data out", 6 ~{CS} (in) "Chip select signal, active low"

## ADS7888SDBVT
designator U?
2.35 to 5.25 V, 8-Bit, 1.25 MSPS, Serial ADC, -40 to 125 degC, 6-pin SOT23 (DBV6), Pb-Free (RoHS Exempt); Manufacturer: Texas Instruments; PartNumber: ADS7888SDBVT; # Input Channels: 1; Analog Voltage AV/DD(Max)(V): 5.25; Analog Voltage AV/DD(Min)(V): 2.35; Architecture: SAR; INL(Max)(+/-LSB): 0.3; Interface: Serial SPI; Resolution(Bits): 8; Sample Rate (max)(SPS): 1.25M; SFDR(dB): 77; SINAD(dB): 49.5; SubFamily: Precision ADC (<=10MSPS); DatasheetVersion: SLAS468; PackageVersion: 4073253-5/K, 03/2006; PackageReference: DBV6; PackageDescription: 6-Pin Plastic Small Outline, Body 1.6 x 2.9 mm, Pitch 0.95 mm; Supplier 1: Digi-Key; Supplier Part Number 1: TLV1562CPWG4-ND; Supplier 2: Mouser; Supplier Part Number 2: 595-TLV1562CPWG4; Digital Supply(Max)(V): 5.25; Digital Supply(Min)(V): 2.35; Eco-Plan: Pb-Free (RoHS Exempt); Mounting Technology: Surface Mount; Code_JEDEC: MO-178; ComponentLink1Description: Manufacturer URL; ComponentLink1URL: http://www.ti.com/; ComponentLink2Description: Datasheet; ComponentLink2URL: http://www.ti.com/general/docs/lit/getliterature.tsp?genericPartNumber=ADS7888&fileType=pdf; ComponentLink3Description: Package Specification; ComponentLink3URL: http://www.ti.com/litv/pdf/mpds026h
footprint TI-DBV6_N (SOT23, 6-Leads, Body 2.9x1.6mm, Pitch 0.95mm, IPC Medium Density)
footprint TI-DBV6_L (SOT23, 6-Leads, Body 2.9x1.6mm, Pitch 0.95mm, IPC High Density)
footprint TI-DBV6_M (SOT23, 6-Leads, Body 2.9x1.6mm, Pitch 0.95mm, IPC Low Density)
pins: 1 VDD (power) "Power supply input also acts like a reference voltage to ADC.", 2 GND (power) "Ground for power supply, all analog and digital signals are referred with respect to this pin.", 3 VIN (in) "Analog signal input", 4 SCLK (in) "Serial clock", 5 SDO (hiz) "Serial data out", 6 ~{CS} (in) "Chip select signal, active low"

## ADS7888SDBVTG4
designator U?
2.35 to 5.25 V, 8-Bit, 1.25 MSPS, Serial ADC, -40 to 125 degC, 6-pin SOT23 (DBV6); Manufacturer: Texas Instruments; PartNumber: ADS7888SDBVTG4; # Input Channels: 1; Analog Voltage AV/DD(Max)(V): 5.25; Analog Voltage AV/DD(Min)(V): 2.35; Architecture: SAR; INL(Max)(+/-LSB): 0.3; Interface: Serial SPI; Resolution(Bits): 8; Sample Rate (max)(SPS): 1.25M; SFDR(dB): 77; SINAD(dB): 49.5; SubFamily: Precision ADC (<=10MSPS); DatasheetVersion: SLAS468; PackageVersion: 4073253-5/K, 03/2006; PackageReference: DBV6; PackageDescription: 6-Pin Plastic Small Outline, Body 1.6 x 2.9 mm, Pitch 0.95 mm; Supplier 1: Digi-Key; Supplier Part Number 1: 296-1879-5-ND; Supplier 2: Mouser; Supplier Part Number 2: 595-TLV1562IDW; Digital Supply(Max)(V): 5.25; Digital Supply(Min)(V): 2.35; Mounting Technology: Surface Mount; Code_JEDEC: MO-178; ComponentLink1Description: Manufacturer URL; ComponentLink1URL: http://www.ti.com/; ComponentLink2Description: Datasheet; ComponentLink2URL: http://www.ti.com/general/docs/lit/getliterature.tsp?genericPartNumber=ADS7888&fileType=pdf; ComponentLink3Description: Package Specification; ComponentLink3URL: http://www.ti.com/litv/pdf/mpds026h
footprint TI-DBV6_N (SOT23, 6-Leads, Body 2.9x1.6mm, Pitch 0.95mm, IPC Medium Density)
footprint TI-DBV6_L (SOT23, 6-Leads, Body 2.9x1.6mm, Pitch 0.95mm, IPC High Density)
footprint TI-DBV6_M (SOT23, 6-Leads, Body 2.9x1.6mm, Pitch 0.95mm, IPC Low Density)
pins: 1 VDD (power) "Power supply input also acts like a reference voltage to ADC.", 2 GND (power) "Ground for power supply, all analog and digital signals are referred with respect to this pin.", 3 VIN (in) "Analog signal input", 4 SCLK (in) "Serial clock", 5 SDO (hiz) "Serial data out", 6 ~{CS} (in) "Chip select signal, active low"

## ADS7888SDCKR
designator U?
2.35 to 5.25 V, 8-Bit, 1.25 MSPS, Serial ADC, -40 to 125 degC, 6-pin SOT23 (DCK6), Pb-Free (RoHS Exempt); Manufacturer: Texas Instruments; PartNumber: ADS7888SDCKR; # Input Channels: 1; Analog Voltage AV/DD(Max)(V): 5.25; Analog Voltage AV/DD(Min)(V): 2.35; Architecture: SAR; INL(Max)(+/-LSB): 0.3; Interface: Serial SPI; Resolution(Bits): 8; Sample Rate (max)(SPS): 1.25M; SFDR(dB): 77; SINAD(dB): 49.5; SubFamily: Precision ADC (<=10MSPS); DatasheetVersion: SLAS468; PackageVersion: 4093553-4/G, 01/2007; PackageReference: DCK6; PackageDescription: 6-Pin Plastic Small Outline, Body 2 x 1.25 mm, Pitch 0.65 mm; Supplier 1: Digi-Key; Supplier Part Number 1: TLV1562IDWG4-ND; Supplier 2: Mouser; Supplier Part Number 2: 595-TLV1562IDWG4; Digital Supply(Max)(V): 5.25; Digital Supply(Min)(V): 2.35; Eco-Plan: Pb-Free (RoHS Exempt); Mounting Technology: Surface Mount; Code_JEDEC: MO-203; ComponentLink1Description: Manufacturer URL; ComponentLink1URL: http://www.ti.com/; ComponentLink2Description: Datasheet; ComponentLink2URL: http://www.ti.com/general/docs/lit/getliterature.tsp?genericPartNumber=ADS7888&fileType=pdf; ComponentLink3Description: Package Specification; ComponentLink3URL: http://www.ti.com/litv/pdf/mpds114c
footprint TI-DCK6_V (SOT23, 6-Leads, Body 2x1.25mm, Pitch 0.65mm)
pins: 1 VDD (power) "Power supply input also acts like a reference voltage to ADC.", 2 GND (power) "Ground for power supply, all analog and digital signals are referred with respect to this pin.", 3 VIN (in) "Analog signal input", 4 SCLK (in) "Serial clock", 5 SDO (hiz) "Serial data out", 6 ~{CS} (in) "Chip select signal, active low"

## ADS7888SDCKT
designator U?
2.35 to 5.25 V, 8-Bit, 1.25 MSPS, Serial ADC, -40 to 125 degC, 6-pin SOT23 (DCK6), Pb-Free (RoHS Exempt); Manufacturer: Texas Instruments; PartNumber: ADS7888SDCKT; # Input Channels: 1; Analog Voltage AV/DD(Max)(V): 5.25; Analog Voltage AV/DD(Min)(V): 2.35; Architecture: SAR; INL(Max)(+/-LSB): 0.3; Interface: Serial SPI; Resolution(Bits): 8; Sample Rate (max)(SPS): 1.25M; SFDR(dB): 77; SINAD(dB): 49.5; SubFamily: Precision ADC (<=10MSPS); DatasheetVersion: SLAS468; PackageVersion: 4093553-4/G, 01/2007; PackageReference: DCK6; PackageDescription: 6-Pin Plastic Small Outline, Body 2 x 1.25 mm, Pitch 0.65 mm; Supplier 1: Digi-Key; Supplier Part Number 1: 296-1880-5-ND; Supplier 2: Mouser; Supplier Part Number 2: 595-TLV1562IPW; Digital Supply(Max)(V): 5.25; Digital Supply(Min)(V): 2.35; Eco-Plan: Pb-Free (RoHS Exempt); Mounting Technology: Surface Mount; Code_JEDEC: MO-203; ComponentLink1Description: Manufacturer URL; ComponentLink1URL: http://www.ti.com/; ComponentLink2Description: Datasheet; ComponentLink2URL: http://www.ti.com/general/docs/lit/getliterature.tsp?genericPartNumber=ADS7888&fileType=pdf; ComponentLink3Description: Package Specification; ComponentLink3URL: http://www.ti.com/litv/pdf/mpds114c
footprint TI-DCK6_V (SOT23, 6-Leads, Body 2x1.25mm, Pitch 0.65mm)
pins: 1 VDD (power) "Power supply input also acts like a reference voltage to ADC.", 2 GND (power) "Ground for power supply, all analog and digital signals are referred with respect to this pin.", 3 VIN (in) "Analog signal input", 4 SCLK (in) "Serial clock", 5 SDO (hiz) "Serial data out", 6 ~{CS} (in) "Chip select signal, active low"

## ADS7888SDCKTG4
designator U?
2.35 to 5.25 V, 8-Bit, 1.25 MSPS, Serial ADC, -40 to 125 degC, 6-pin SOT23 (DCK6); Manufacturer: Texas Instruments; PartNumber: ADS7888SDCKTG4; # Input Channels: 1; Analog Voltage AV/DD(Max)(V): 5.25; Analog Voltage AV/DD(Min)(V): 2.35; Architecture: SAR; INL(Max)(+/-LSB): 0.3; Interface: Serial SPI; Resolution(Bits): 8; Sample Rate (max)(SPS): 1.25M; SFDR(dB): 77; SINAD(dB): 49.5; SubFamily: Precision ADC (<=10MSPS); DatasheetVersion: SLAS468; PackageVersion: 4093553-4/G, 01/2007; PackageReference: DCK6; PackageDescription: 6-Pin Plastic Small Outline, Body 2 x 1.25 mm, Pitch 0.65 mm; Supplier 1: Digi-Key; Supplier Part Number 1: TLV1562IPWG4-ND; Supplier 2: Mouser; Supplier Part Number 2: 595-TLV1562IPWG4; Digital Supply(Max)(V): 5.25; Digital Supply(Min)(V): 2.35; Mounting Technology: Surface Mount; Code_JEDEC: MO-203; ComponentLink1Description: Manufacturer URL; ComponentLink1URL: http://www.ti.com/; ComponentLink2Description: Datasheet; ComponentLink2URL: http://www.ti.com/general/docs/lit/getliterature.tsp?genericPartNumber=ADS7888&fileType=pdf; ComponentLink3Description: Package Specification; ComponentLink3URL: http://www.ti.com/litv/pdf/mpds114c
footprint TI-DCK6_V (SOT23, 6-Leads, Body 2x1.25mm, Pitch 0.65mm)
pins: 1 VDD (power) "Power supply input also acts like a reference voltage to ADC.", 2 GND (power) "Ground for power supply, all analog and digital signals are referred with respect to this pin.", 3 VIN (in) "Analog signal input", 4 SCLK (in) "Serial clock", 5 SDO (hiz) "Serial data out", 6 ~{CS} (in) "Chip select signal, active low"

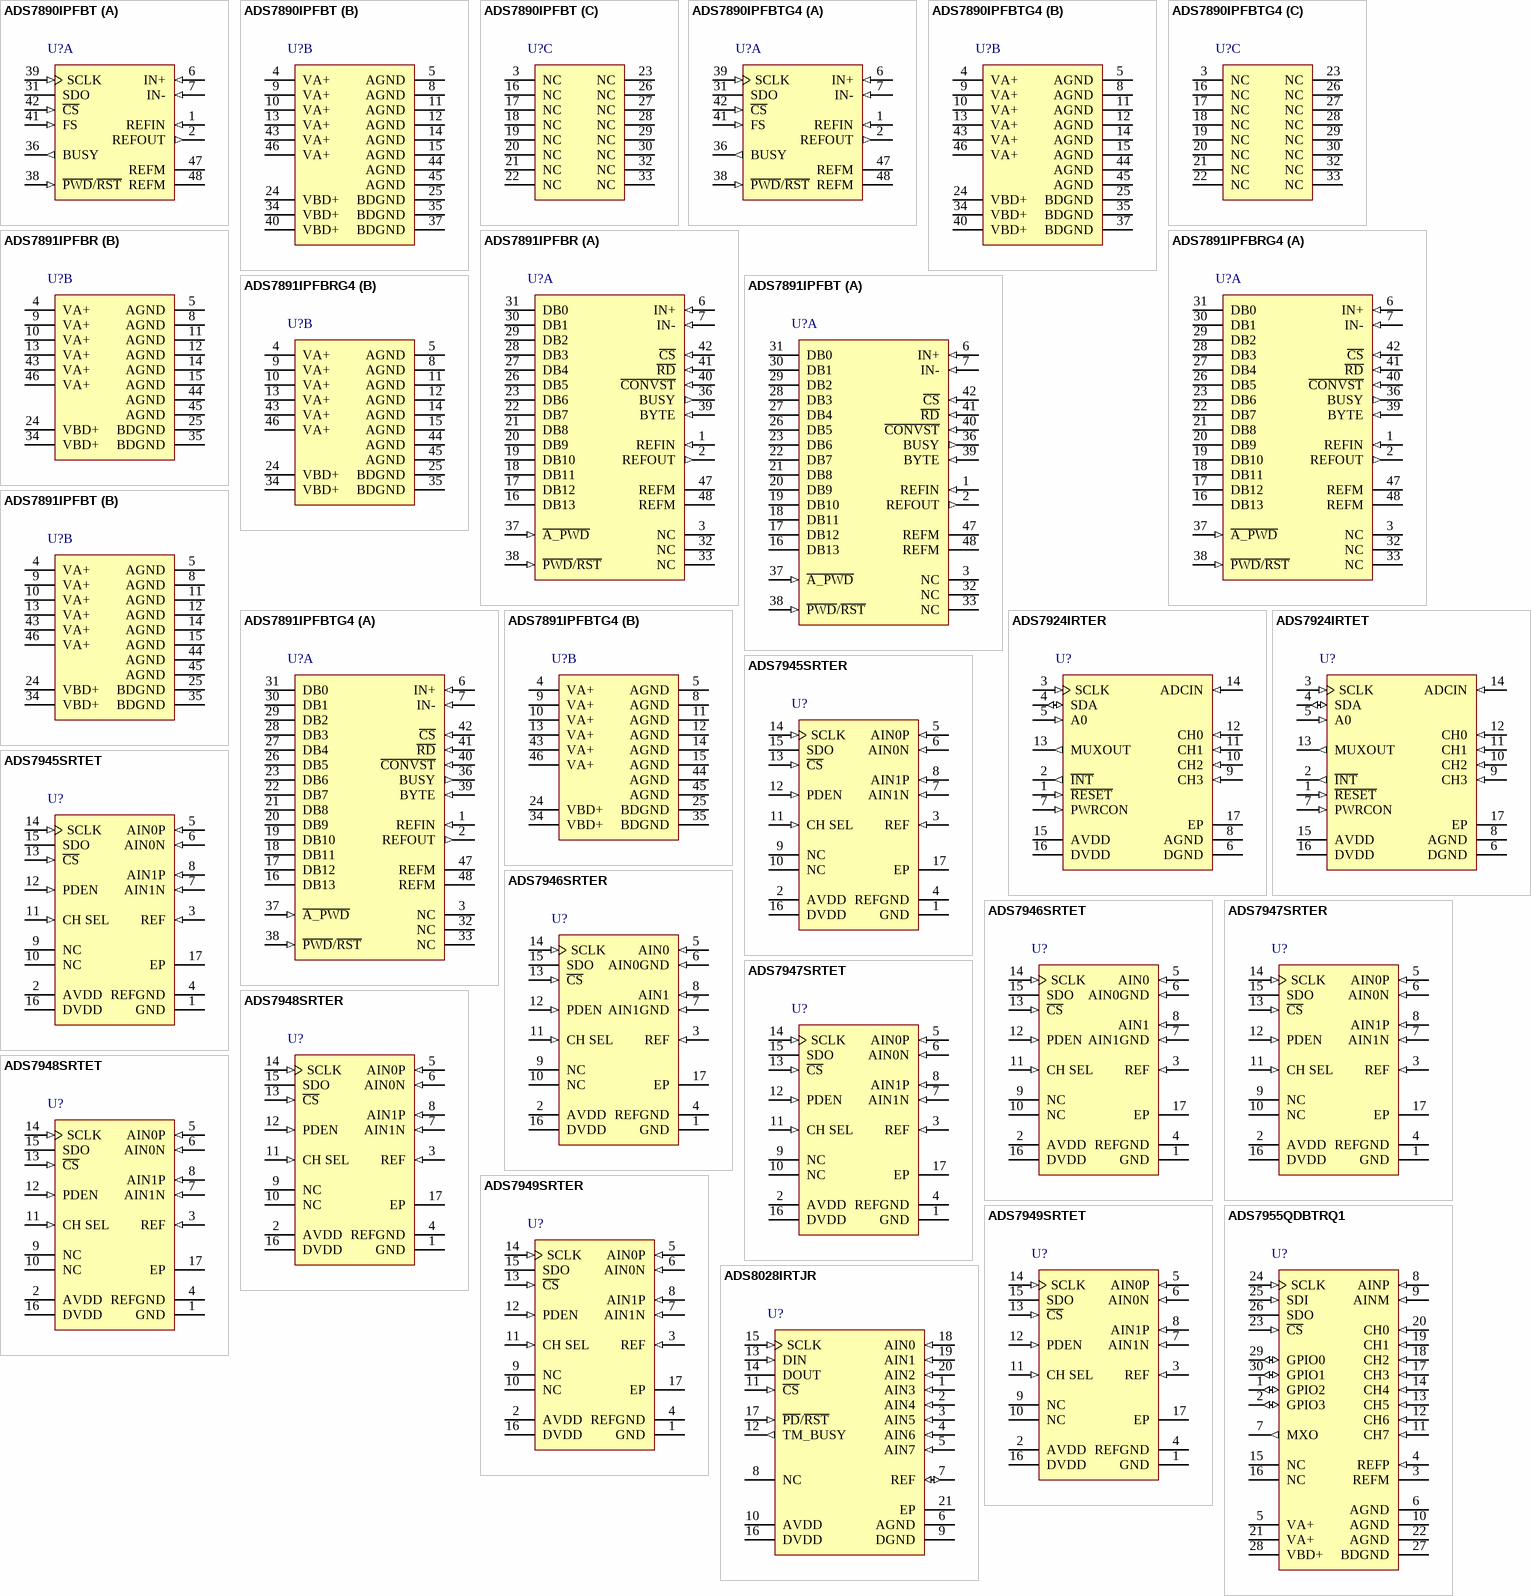
[diagram p71: symbols ADS7890IPFBT to ADS8028IRTJR]

## ADS7890IPFBT
designator U?
2.7 to 5.25 V Digital, 5 V Analog, 14-Bit, 1.25 MSPS, Serial ADC with Reference, -40 to 85 degC, 48-pin QFP (PFB48), Green (RoHS & no Sb/Br); Manufacturer: Texas Instruments; PartNumber: ADS7890IPFBT; # Input Channels: 1; Analog Voltage AV/DD(Max)(V): 5.25; Analog Voltage AV/DD(Min)(V): 4.75; Architecture: SAR; Digital Supply(Min)(V): 2.7; INL(Max)(+/-LSB): 1.5; Interface: Serial SPI; Resolution(Bits): 14; Sample Rate (max)(SPS): 1.25M; SFDR(dB): 97; SINAD(dB): 77; SNR(dB): 77.5; SubFamily: Precision ADC (<=10MSPS); DatasheetVersion: SLAS409; PackageVersion: 4073176/B, 10/1996; PackageReference: PFB48; PackageDescription: 48-Pin Plastic Flat Pack, Body 7 x 7 mm, Pitch 0.5 mm; Supplier 1: Digi-Key; Supplier Part Number 1: ADS7844E-ND; Supplier 2: Farnell; Supplier Part Number 2: 1334988; Supplier 3: Newark; Supplier Part Number 3: 35C1557; Supplier 4: Mouser; Supplier Part Number 4: 595-ADS7844E; Digital Supply(Max)(V): 5.25; Eco-Plan: Green (RoHS & no Sb/Br); Mounting Technology: Surface Mount; Code_JEDEC: MS-026; ComponentLink1Description: Manufacturer URL; ComponentLink1URL: http://www.ti.com/; ComponentLink2Description: Datasheet; ComponentLink2URL: http://www.ti.com/general/docs/lit/getliterature.tsp?genericPartNumber=ADS7890&fileType=pdf; ComponentLink3Description: Package Specification; ComponentLink3URL: http://www.ti.com/lit/ml/mtqf019a/mtqf019a.pdf
footprint TI-PFB48_N (QFP, 48-Leads, Body 7x7mm, Pitch 0.5mm, IPC Medium Density)
footprint TI-PFB48_L (QFP, 48-Leads, Body 7x7mm, Pitch 0.5mm, IPC High Density)
footprint TI-PFB48_M (QFP, 48-Leads, Body 7x7mm, Pitch 0.5mm, IPC Low Density)
part A pins: 1 REFIN (in) "Reference (positive) input. Needs to be decoupled with REFM pin using 0.1-uF bypass capacitor and 1-uF storage capacitor.", 2 REFOUT (out) "Internal reference output. To be shorted to REFIN pin when internal reference is used. Do not connect to REFIN pin when external reference is used. Always needs to be decoupled with AGND using 0.1-uF bypass capacitor.", 6 IN+ (in) "Non inverting analog input channel", 7 IN- (in) "Inverting analog input channel", 31 SDO (hiz) "Serial data out. Data (excluding MSB) is latched out on the rising of SCLK with MSB first format. MSB is latched with the rising edge of FS or falling edge of CS depending on whether a DSP or SPI interface is used.", 36 BUSY (out) "Status output. This pin is high when a conversion is in progress.", 38 ~{PWD}/~{RST} (in) "Active low input, acts as device power down/device reset signal.", 39 SCLK (in) "Serial clock. The device needs a minimum of 16 clocks per frame. As described in the timing diagrams, it controls serial data out (first 14 clocks), powerup (from nap) on the 8th rising edge of SCLK, start of sample (track) (See Datasheet)", 41 FS (in) "Frame sync. The rising edge of FS starts a new sample and convert frame. The MSB from the previous conversion is latched out on the rising edge of FS. The rising edge of FS during an internal convert (see Figure 12) aborts (See Datasheet)", 42 ~{CS} (in) "Chip Select. Active low signal. The falling edge of C\S\ starts a new sample and convert frame. The MSB from the previous conversion is latched out on the falling edge of C\S\. This signal can be pulled high after the 16th (See Datasheet)", 47 REFM (power) "Reference ground. To be connected to analog ground plane.", 48 REFM (power) "Reference ground. To be connected to analog ground plane."
part B pins: 4 VA+ (power) "Analog power supplies. Refer to Table 2 for layout guidelines.", 5 AGND (power) "Analog ground pins. Need to be shorted to analog ground plane below the device.", 8 AGND (power) "Analog ground pins. Need to be shorted to analog ground plane below the device.", 9 VA+ (power) "Analog power supplies. Refer to Table 2 for layout guidelines.", 10 VA+ (power) "Analog power supplies. Refer to Table 2 for layout guidelines.", 11 AGND (power) "Analog ground pins. Need to be shorted to analog ground plane below the device.", 12 AGND (power) "Analog ground pins. Need to be shorted to analog ground plane below the device.", 13 VA+ (power) "Analog power supplies. Refer to Table 2 for layout guidelines.", 14 AGND (power) "Analog ground pins. Need to be shorted to analog ground plane below the device.", 15 AGND (power) "Analog ground pins. Need to be shorted to analog ground plane below the device.", 24 VBD+ (power) "Digital power supply for all digital inputs and outputs. Refer to Table 2 for layout guidelines.", 25 BDGND (power) "Digital ground for all digital inputs and outputs. Needs to be shorted to analog ground plane below the device.", 34 VBD+ (power) "Digital power supply for all digital inputs and outputs. Refer to Table 2 for layout guidelines.", 35 BDGND (power) "Digital ground for all digital inputs and outputs. Needs to be shorted to analog ground plane below the device.", 37 BDGND (power) "Digital ground for all digital inputs and outputs. Needs to be shorted to analog ground plane below the device.", 40 VBD+ (power) "Digital power supply for all digital inputs and outputs. Refer to Table 2 for layout guidelines.", 43 VA+ (power) "Analog power supplies. Refer to Table 2 for layout guidelines.", 44 AGND (power) "Analog ground pins. Need to be shorted to analog ground plane below the device.", 45 AGND (power) "Analog ground pins. Need to be shorted to analog ground plane below the device.", 46 VA+ (power) "Analog power supplies. Refer to Table 2 for layout guidelines."
part C pins: 3 NC "No connection pins.", 16 NC "No connection pins.", 17 NC "No connection pins.", 18 NC "No connection pins.", 19 NC "No connection pins.", 20 NC "No connection pins.", 21 NC "No connection pins.", 22 NC "No connection pins.", 23 NC "No connection pins.", 26 NC "No connection pins.", 27 NC "No connection pins.", 28 NC "No connection pins.", 29 NC "No connection pins.", 30 NC "No connection pins.", 32 NC "No connection pins.", 33 NC "No connection pins."